# Altium footprint library CoinCell.PcbLib: 2 footprints
Each footprint in its own frame and in the unit in brackets; x right, y up, seen from the top. Pads: shape width x height; smd on the part's side, far side on the other; paste and mask are expansions set on the pad; w line width, h text height; cw(c..) or ccw(c..) is an arc to the next point about the centre after c.
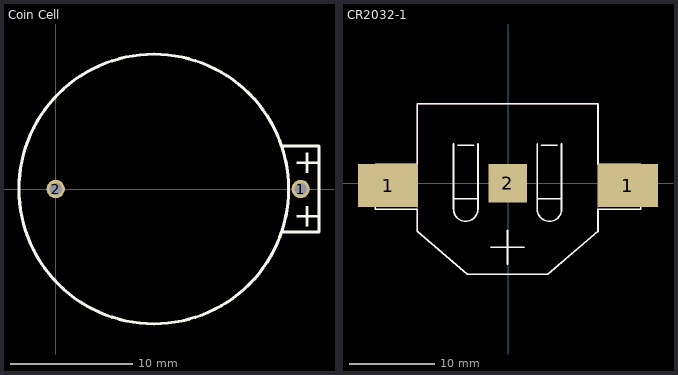
[diagram p0: the footprints below, top view; thin cyan lines are the x and y axes]

## Coin Cell [mm]
pads (2):
  round 1.5 hole 1: 1(20,0) 2(0,0)
Top Overlay:
  circle w0.254: c8.011,0 r11.011
  lines w0.254: 18.5,-3.5 21.5,-3.5 21.5,3.5 18.5,3.5
  text "+" at 19.4,1.3 h2
  text "+" at 19.4,-3.1 h2
3D body: height 8.67, standoff -3.5, extent -4.781,-11.5 22.65,11.5
3D body: height 5.7, standoff 2.5, extent -3.125,-9.85 16.875,10.15

## CR2032-1 [mm]
pads (3):
  rect 7x5 smd: 1(-14,-0.25) 1(14,-0.25)
  rect 4.5x4.5 smd: 2(-0.05,0)
Top Overlay:
  lines w0.2: -6.35,-3 -6.35,4.6 ; -6.35,-1.8 -3.51,-1.8 ; -6.349,-2.954 ccw(c-4.93,-3) -3.51,-3 -3.51,4.6 ; -5.85,4.45 -4.01,4.45 ; -2,-7.45 1.9,-7.45 ; -0.05,-9.4 -0.05,-5.5 ; 3.41,-1.8 6.25,-1.8 ; 3.41,4.6 3.41,-3 ccw(c4.83,-3) 6.249,-2.954 ; 3.91,4.45 5.75,4.45 ; 6.25,-3 6.25,4.6 ; 10.5,2.25 10.5,9.3 -10.6,9.3 -10.6,2.25 -15.5,2.25 -15.5,-3 -10.6,-3 -10.6,-5.6 -4.75,-10.6 4.65,-10.6 10.5,-5.6 10.5,-3 15.5,-3 15.5,2.25 10.55,2.25
Mechanical 13:
  lines w0.1: -10.6,-5.6 -10.6,9.3 10.5,9.3 10.5,-5.6 4.65,-10.6 -4.75,-10.6 -10.6,-5.6
3D body: height 3.96, standoff 0, extent -15.367,-10.6 15.367,9.453